# Altium footprint library CHXXX.pcblib: 159 footprints (part 4 of 10)
Each footprint in its own frame and in the unit in brackets; x right, y up, seen from the top. Pads: shape width x height; smd on the part's side, far side on the other; paste and mask are expansions set on the pad; w line width, h text height; cw(c..) or ccw(c..) is an arc to the next point about the centre after c.
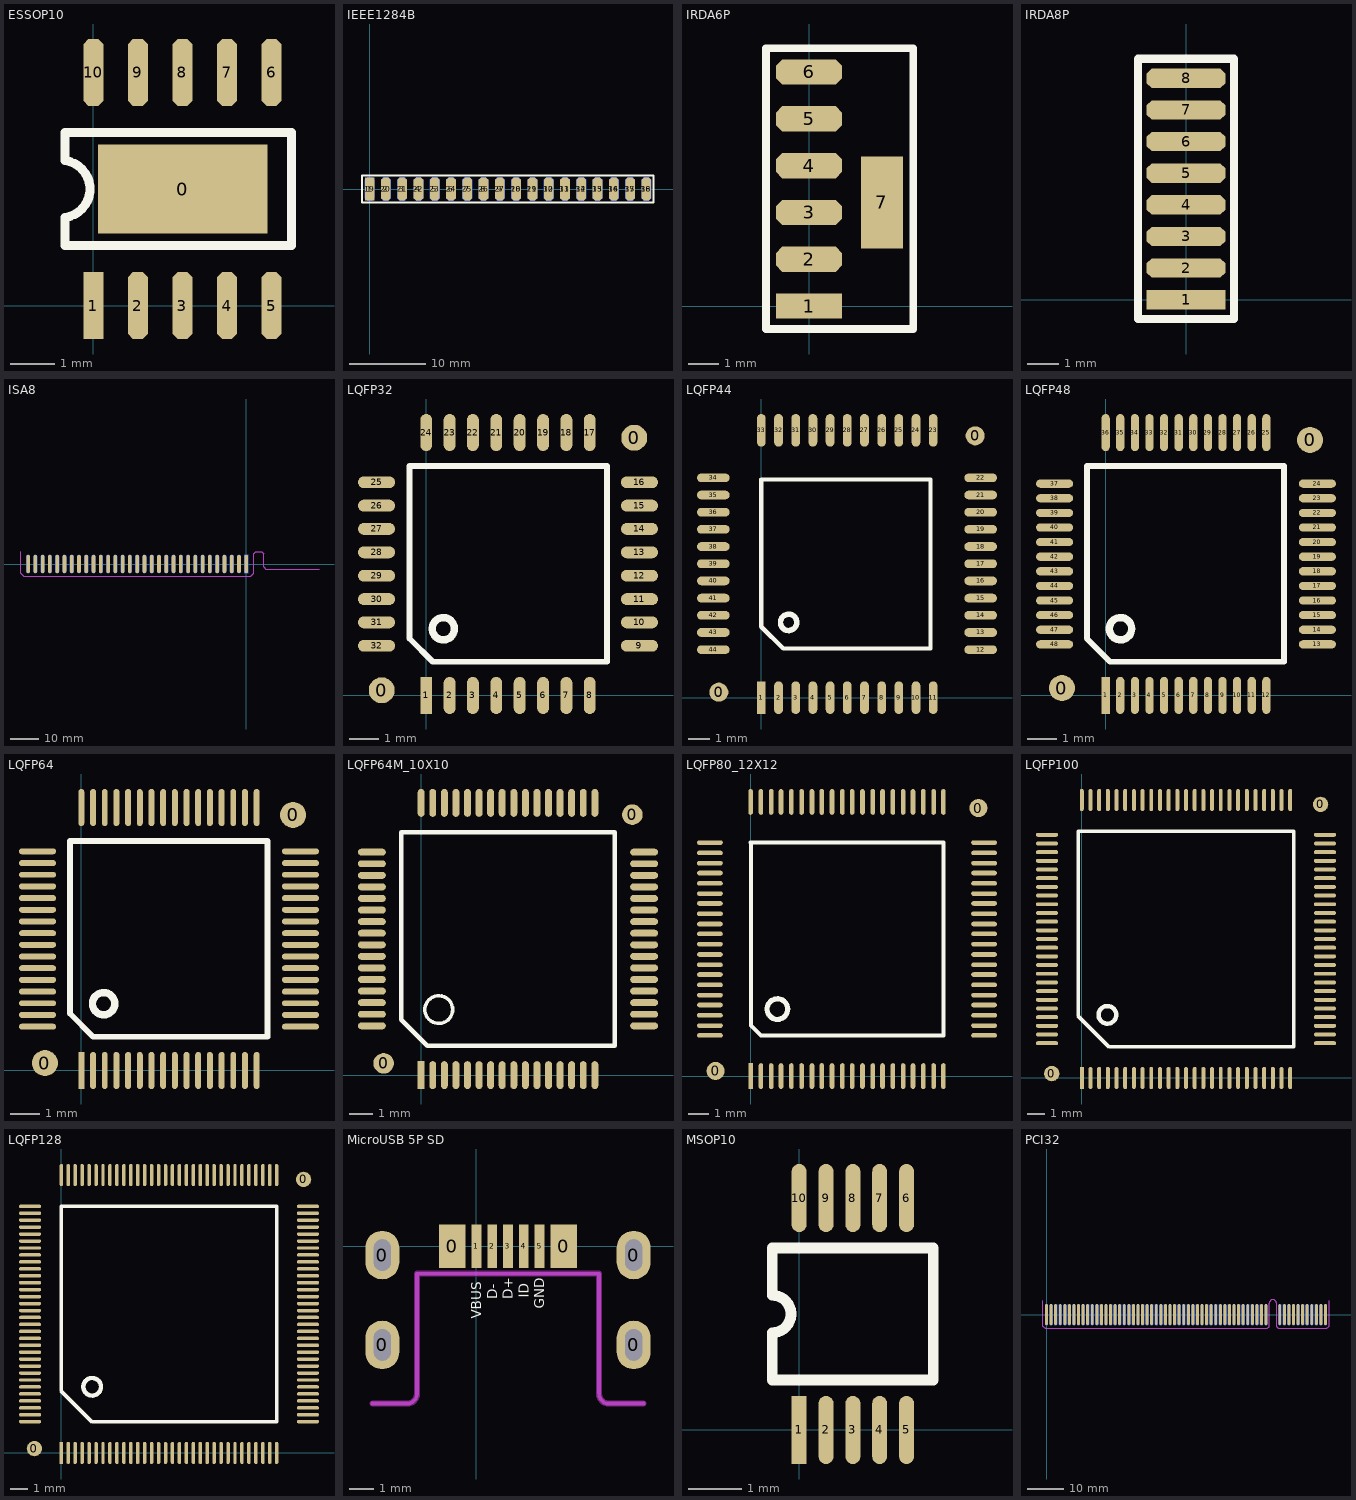
[diagram p3: the footprints below, top view; thin cyan lines are the x and y axes]

## ESSOP10 [mm]
pads (11):
  rect 3.8x2 smd: 0(2.007,2.616)
  rect 0.45x1.5 smd: 1(0,0)
  oct 0.45x1.5 smd: 2(1,0) 3(2,0) 4(3,0) 5(4,0) 6(4,5.232) 7(3,5.232) 8(2,5.232) 9(1,5.232) 10(0,5.232)
TopOverlay:
  lines w0.203: -0.635,1.346 4.445,1.346 4.445,3.886 -0.635,3.886 -0.635,3.251 cw(c-0.714,2.616) -0.635,1.981 -0.635,1.346

## IEEE1284B [mil]
pads (36):
  rect 50x120 smd: 1(0,0)
  oct 50x120 smd: 2(84.25,0) 3(168.5,0) 4(252.76,0) 5(337.01,0) 6(421.26,0) 7(505.51,0) 8(589.76,0) 9(674.02,0) 10(758.27,0) 11(842.52,0) 12(926.77,0) 13(1011.02,0) 14(1095.28,0) 15(1179.53,0) 16(1263.78,0) 17(1348.03,0) 18(1432.28,0)
  oct 50x120 smd far side: 19(0,0) 20(84.25,0) 21(168.5,0) 22(252.76,0) 23(337.01,0) 24(421.26,0) 25(505.51,0) 26(589.76,0) 27(674.02,0) 28(758.27,0) 29(842.52,0) 30(926.77,0) 31(1011.02,0) 32(1095.28,0) 33(1179.53,0) 34(1263.78,0) 35(1348.03,0) 36(1432.28,0)
TopOverlay:
  lines w10: -40,-70 -40,70 1470,70 1470,-70 -40,-70

## IRDA6P [mil]
pads (7):
  rect 86x33 smd: 1(0,0)
  oct 86x33 smd: 2(0,60.91) 3(0,121.93) 4(0,182.95) 5(0,243.98) 6(0,305)
  rect 55x120 smd: 7(95,135)
TopOverlay:
  lines w10: -56,-30 -56,336 136,336 136,-30 -56,-30

## IRDA8P [mil]
pads (8):
  rect 98x24 smd: 1(0,0)
  oct 98x24 smd: 2(0,39.37) 3(0,78.74) 4(0,118.11) 5(0,157.48) 6(0,196.85) 7(0,236.22) 8(0,275.59)
TopOverlay:
  lines w10: -60,-24 -60,300 60,300 60,-24 -60,-24

## ISA8 [mm]
pads (62):
  rect 1.27x6.35 smd far side: 1(0,0)
  oval 1.27x6.35 smd far side: 2(-2.54,0) 3(-5.08,0) 4(-7.62,0) 5(-10.16,0) 6(-12.7,0) 7(-15.24,0) 8(-17.78,0) 9(-20.32,0) 10(-22.86,0) 11(-25.4,0) 12(-27.94,0) 13(-30.48,0) 14(-33.02,0) 15(-35.56,0) 16(-38.1,0) 17(-40.64,0) 18(-43.18,0) 19(-45.72,0) 20(-48.26,0) 21(-50.8,0) 22(-53.34,0) 23(-55.88,0) 24(-58.42,0) 25(-60.96,0) 26(-63.5,0) 27(-66.04,0) 28(-68.58,0) 29(-71.12,0) 30(-73.66,0) 31(-76.2,0)
  oval 1.27x6.35 smd: 32(-76.2,0) 33(-73.66,0) 34(-71.12,0) 35(-68.58,0) 36(-66.04,0) 37(-63.5,0) 38(-60.96,0) 39(-58.42,0) 40(-55.88,0) 41(-53.34,0) 42(-50.8,0) 43(-48.26,0) 44(-45.72,0) 45(-43.18,0) 46(-40.64,0) 47(-38.1,0) 48(-35.56,0) 49(-33.02,0) 50(-30.48,0) 51(-27.94,0) 52(-25.4,0) 53(-22.86,0) 54(-20.32,0) 55(-17.78,0) 56(-15.24,0) 57(-12.7,0) 58(-10.16,0) 59(-7.62,0) 60(-5.08,0) 61(-2.54,0) 62(0,0)
TopSolder:
  rectangle: -78.74,-4.318 2.54,3.302
BottomSolder:
  rectangle: -78.74,-4.318 2.54,3.302
KeepOutLayer:
  lines w0.254: -78.74,4.318 -78.74,-3.302 -77.724,-4.318 1.524,-4.318 2.54,-3.302 2.54,3.556 3.302,4.318 5.334,4.318 6.096,3.556 6.096,-1.016 6.858,-1.778 25.4,-1.778
Mechanical1:
  lines w0.254: -78.74,4.318 -78.74,-3.302 -77.724,-4.318 1.524,-4.318 2.54,-3.302 2.54,3.556 3.302,4.318 5.334,4.318 6.096,3.556 6.096,-1.016 6.858,-1.778 25.4,-1.778

## LQFP32 [mil]
pads (34):
  round 35 smd: 0(-60,7) 0(280.47,347.47)
  rect 16x50 smd: 1(0,0)
  oval 16x50 smd: 2(31.5,0) 3(62.99,0) 4(94.49,0) 5(125.98,0) 6(157.48,0) 7(188.98,0) 8(220.47,0) 17(220.47,354.5) 18(188.98,354.5) 19(157.48,354.5) 20(125.98,354.5) 21(94.49,354.5) 22(62.99,354.5) 23(31.5,354.5) 24(0,354.5)
  oval 50x16 smd: 9(287.5,67) 10(287.5,98.5) 11(287.5,129.99) 12(287.5,161.49) 13(287.5,192.98) 14(287.5,224.48) 15(287.5,255.98) 16(287.5,287.47) 25(-67,287.47) 26(-67,255.98) 27(-67,224.48) 28(-67,192.98) 29(-67,161.49) 30(-67,129.99) 31(-67,98.5) 32(-67,67)
TopOverlay:
  circle w10: c23,90 r15
  lines w7.87: -22.42,76.66 8.83,45.42
  lines w8: -22.42,76.66 -22.42,309.42 243.58,309.42 243.58,45.42 8.83,45.42

## LQFP44 [mil]
pads (46):
  round 35 smd: 0(-78,10) 0(392,480)
  rect 16x60 smd: 1(0,0)
  oval 16x60 smd: 2(31.5,0) 3(63,0) 4(94.49,0) 5(126,0) 6(157.48,0) 7(188.98,0) 8(220.47,0) 9(251.97,0) 10(283.46,0) 11(314.96,0) 23(314.96,490) 24(283.46,490) 25(251.97,490) 26(220.47,490) 27(188.98,490) 28(157.48,490) 29(126,490) 30(94.49,490) 31(63,490) 32(31.5,490) 33(0,490)
  oval 60x16 smd: 12(402,88) 13(402,119.49) 14(402,151) 15(402,182.48) 16(402,214) 17(402,245.47) 18(402,276.97) 19(402,308.46) 20(402,339.96) 21(402,371.46) 22(402,402.95) 34(-88,402.95) 35(-88,371.46) 36(-88,339.96) 37(-88,308.46) 38(-88,276.97) 39(-88,245.47) 40(-88,214) 41(-88,182.48) 42(-88,151) 43(-88,119.49) 44(-88,88)
TopOverlay:
  circle w10: c50,138 r15
  lines w8: 0,130 40,90 310,90 310,400 0,400 0,130

## LQFP48 [mm]
pads (50):
  round 0.889 smd: 0(-1.496,0.254) 0(6.996,8.746)
  rect 0.28x1.27 smd mask+0.051: 1(0,0)
  oval 0.28x1.27 smd mask+0.051: 2(0.5,0) 3(1,0) 4(1.5,0) 5(2,0) 6(2.5,0) 7(3,0) 8(3.5,0) 9(4,0) 10(4.5,0) 11(5,0) 12(5.5,0) 25(5.5,9) 26(5,9) 27(4.5,9) 28(4,9) 29(3.5,9) 30(3,9) 31(2.5,9) 32(2,9) 33(1.5,9) 34(1,9) 35(0.5,9) 36(0,9)
  oval 1.27x0.28 smd mask+0.051: 13(7.25,1.75) 14(7.25,2.25) 15(7.25,2.75) 16(7.25,3.25) 17(7.25,3.75) 18(7.25,4.25) 19(7.25,4.75) 20(7.25,5.25) 21(7.25,5.75) 22(7.25,6.25) 23(7.25,6.75) 24(7.25,7.25) 37(-1.75,7.25) 38(-1.75,6.75) 39(-1.75,6.25) 40(-1.75,5.75) 41(-1.75,5.25) 42(-1.75,4.75) 43(-1.75,4.25) 44(-1.75,3.75) 45(-1.75,3.25) 46(-1.75,2.75) 47(-1.75,2.25) 48(-1.75,1.75)
TopOverlay:
  circle w0.254: c0.508,2.286 r0.381
  lines w0.2: -0.646,1.947 0.148,1.154
  lines w0.203: -0.646,1.947 -0.646,7.859 6.111,7.859 6.111,1.154 0.148,1.154

## LQFP64 [mm]
pads (66):
  round 0.889 smd: 0(-1.246,0.254) 0(7.246,8.746)
  rect 0.203x1.27 smd mask+0.051: 1(0,0)
  oval 0.203x1.27 smd mask+0.051: 2(0.4,0) 3(0.8,0) 4(1.2,0) 5(1.6,0) 6(2,0) 7(2.4,0) 8(2.8,0) 9(3.2,0) 10(3.6,0) 11(4,0) 12(4.4,0) 13(4.8,0) 14(5.2,0) 15(5.6,0) 16(6,0) 33(6,9) 34(5.6,9) 35(5.2,9) 36(4.8,9) 37(4.4,9) 38(4,9) 39(3.6,9) 40(3.2,9) 41(2.8,9) 42(2.4,9) 43(2,9) 44(1.6,9) 45(1.2,9) 46(0.8,9) 47(0.4,9) 48(0,9)
  oval 1.27x0.203 smd mask+0.051: 17(7.5,1.5) 18(7.5,1.9) 19(7.5,2.3) 20(7.5,2.7) 21(7.5,3.1) 22(7.5,3.5) 23(7.5,3.9) 24(7.5,4.3) 25(7.5,4.7) 26(7.5,5.1) 27(7.5,5.5) 28(7.5,5.9) 29(7.5,6.3) 30(7.5,6.7) 31(7.5,7.1) 32(7.5,7.5) 49(-1.5,7.5) 50(-1.5,7.1) 51(-1.5,6.7) 52(-1.5,6.3) 53(-1.5,5.9) 54(-1.5,5.5) 55(-1.5,5.1) 56(-1.5,4.7) 57(-1.5,4.3) 58(-1.5,3.9) 59(-1.5,3.5) 60(-1.5,3.1) 61(-1.5,2.7) 62(-1.5,2.3) 63(-1.5,1.9) 64(-1.5,1.5)
TopOverlay:
  circle w0.254: c0.762,2.286 r0.381
  lines w0.2: -0.392,1.947 0.402,1.154
  lines w0.203: -0.392,1.947 -0.392,7.859 6.365,7.859 6.365,1.154 0.402,1.154

## LQFP64M_10X10 [mm]
pads (66):
  round 0.889 smd: 0(-1.619,0.508) 0(9.119,11.246)
  rect 0.3x1.2 smd mask+0.051: 1(0,0)
  oval 0.3x1.2 smd mask+0.051: 2(0.5,0) 3(1,0) 4(1.5,0) 5(2,0) 6(2.5,0) 7(3,0) 8(3.5,0) 9(4,0) 10(4.5,0) 11(5,0) 12(5.5,0) 13(6,0) 14(6.5,0) 15(7,0) 16(7.5,0) 33(7.5,11.754) 34(7,11.754) 35(6.5,11.754) 36(6,11.754) 37(5.5,11.754) 38(5,11.754) 39(4.5,11.754) 40(4,11.754) 41(3.5,11.754) 42(3,11.754) 43(2.5,11.754) 44(2,11.754) 45(1.5,11.754) 46(1,11.754) 47(0.5,11.754) 48(0,11.754)
  oval 1.2x0.3 smd mask+0.051: 17(9.627,2.127) 18(9.627,2.627) 19(9.627,3.127) 20(9.627,3.627) 21(9.627,4.127) 22(9.627,4.627) 23(9.627,5.127) 24(9.627,5.627) 25(9.627,6.127) 26(9.627,6.627) 27(9.627,7.127) 28(9.627,7.627) 29(9.627,8.127) 30(9.627,8.627) 31(9.627,9.127) 32(9.627,9.627) 49(-2.127,9.627) 50(-2.127,9.127) 51(-2.127,8.627) 52(-2.127,8.127) 53(-2.127,7.627) 54(-2.127,7.127) 55(-2.127,6.627) 56(-2.127,6.127) 57(-2.127,5.627) 58(-2.127,5.127) 59(-2.127,4.627) 60(-2.127,4.127) 61(-2.127,3.627) 62(-2.127,3.127) 63(-2.127,2.627) 64(-2.127,2.127)
TopOverlay:
  circle w0.152: c0.762,2.829 r0.6
  lines w0.2: -0.865,2.397 -0.865,10.492 8.365,10.492 8.365,1.262 0.27,1.262 -0.865,2.397

## LQFP80_12X12 [mil]
pads (82):
  round 35 smd: 0(-68,10) 0(442,520)
  rect 9x50 smd mask+2: 1(0,0)
  oval 9x50 smd mask+2: 2(20,0) 3(40,0) 4(59,0) 5(79,0) 6(99,0) 7(119,0) 8(138,0) 9(158,0) 10(178,0) 11(197,0) 12(217,0) 13(237,0) 14(256,0) 15(276,0) 16(296,0) 17(315,0) 18(335,0) 19(355,0) 20(374,0) 41(374,532) 42(355,532) 43(335,532) 44(315,532) 45(296,532) 46(276,532) 47(256,532) 48(237,532) 49(217,532) 50(197,532) 51(178,532) 52(158,532) 53(138,532) 54(119,532) 55(99,532) 56(79,532) 57(59,532) 58(40,532) 59(20,532) 60(0,532)
  oval 50x9 smd mask+2: 21(453,79) 22(453,98) 23(453,118) 24(453,138) 25(453,157) 26(453,177) 27(453,197) 28(453,216) 29(453,236) 30(453,256) 31(453,276) 32(453,295) 33(453,315) 34(453,335) 35(453,354) 36(453,374) 37(453,394) 38(453,413) 39(453,433) 40(453,453) 61(-79,453) 62(-79,433) 63(-79,413) 64(-79,394) 65(-79,374) 66(-79,354) 67(-79,335) 68(-79,315) 69(-79,295) 70(-79,276) 71(-79,256) 72(-79,236) 73(-79,216) 74(-79,197) 75(-79,177) 76(-79,157) 77(-79,138) 78(-79,118) 79(-79,98) 80(-79,79)
TopOverlay:
  circle w10: c52,130 r20
  lines w8: 0,453 374,453 374,79 20,79 1,98 1,453

## LQFP100 [mm]
pads (102):
  round 0.889 smd: 0(-1.727,0.254) 0(13.746,15.748)
  rect 0.229x1.27 smd mask+0.051: 1(0,0)
  oval 0.229x1.27 smd mask+0.051: 2(0.5,0) 3(1,0) 4(1.5,0) 5(2,0) 6(2.5,0) 7(3,0) 8(3.5,0) 9(4,0) 10(4.5,0) 11(5,0) 12(5.5,0) 13(6,0) 14(6.5,0) 15(7,0) 16(7.5,0) 17(8,0) 18(8.5,0) 19(9,0) 20(9.5,0) 21(10,0) 22(10.5,0) 23(11,0) 24(11.5,0) 25(12,0) 51(12,16) 52(11.5,16) 53(11,16) 54(10.5,16) 55(10,16) 56(9.5,16) 57(9,16) 58(8.5,16) 59(8,16) 60(7.5,16) 61(7,16) 62(6.5,16) 63(6,16) 64(5.5,16) 65(5,16) 66(4.5,16) 67(4,16) 68(3.5,16) 69(3,16) 70(2.5,16) 71(2,16) 72(1.5,16) 73(1,16) 74(0.5,16) 75(0,16)
  oval 1.27x0.229 smd mask+0.051: 26(14,2) 27(14,2.5) 28(14,3) 29(14,3.5) 30(14,4) 31(14,4.5) 32(14,5) 33(14,5.5) 34(14,6) 35(14,6.5) 36(14,7) 37(14,7.5) 38(14,8) 39(14,8.5) 40(14,9) 41(14,9.5) 42(14,10) 43(14,10.5) 44(14,11) 45(14,11.5) 46(14,12) 47(14,12.5) 48(14,13) 49(14,13.5) 50(14,14) 76(-2,14) 77(-2,13.5) 78(-2,13) 79(-2,12.5) 80(-2,12) 81(-2,11.5) 82(-2,11) 83(-2,10.5) 84(-2,10) 85(-2,9.5) 86(-2,9) 87(-2,8.5) 88(-2,8) 89(-2,7.5) 90(-2,7) 91(-2,6.5) 92(-2,6) 93(-2,5.5) 94(-2,5) 95(-2,4.5) 96(-2,4) 97(-2,3.5) 98(-2,3) 99(-2,2.5) 100(-2,2)
TopOverlay:
  circle w0.254: c1.473,3.632 r0.508
  lines w0.2: -0.215,3.57 -0.215,14.215 12.215,14.215 12.215,1.785 1.57,1.785 -0.215,3.57

## LQFP128 [mm]
pads (130):
  round 0.889 smd: 0(-1.546,0.254) 0(13.946,15.746)
  rect 0.2x1.27 smd mask+0.051: 1(0,0)
  oval 0.2x1.27 smd mask+0.051: 2(0.4,0) 3(0.8,0) 4(1.2,0) 5(1.6,0) 6(2,0) 7(2.4,0) 8(2.8,0) 9(3.2,0) 10(3.6,0) 11(4,0) 12(4.4,0) 13(4.8,0) 14(5.2,0) 15(5.6,0) 16(6,0) 17(6.4,0) 18(6.8,0) 19(7.2,0) 20(7.6,0) 21(8,0) 22(8.4,0) 23(8.8,0) 24(9.2,0) 25(9.6,0) 26(10,0) 27(10.4,0) 28(10.8,0) 29(11.2,0) 30(11.6,0) 31(12,0) 32(12.4,0) 65(12.4,16) 66(12,16) 67(11.6,16) 68(11.2,16) 69(10.8,16) 70(10.4,16) 71(10,16) 72(9.6,16) 73(9.2,16) 74(8.8,16) 75(8.4,16) 76(8,16) 77(7.6,16) 78(7.2,16) 79(6.8,16) 80(6.4,16) 81(6,16) 82(5.6,16) 83(5.2,16) 84(4.8,16) 85(4.4,16) 86(4,16) 87(3.6,16) 88(3.2,16) 89(2.8,16) 90(2.4,16) 91(2,16) 92(1.6,16) 93(1.2,16) 94(0.8,16) 95(0.4,16) 96(0,16)
  oval 1.27x0.2 smd mask+0.051: 33(14.2,1.8) 34(14.2,2.2) 35(14.2,2.6) 36(14.2,3) 37(14.2,3.4) 38(14.2,3.8) 39(14.2,4.2) 40(14.2,4.6) 41(14.2,5) 42(14.2,5.4) 43(14.2,5.8) 44(14.2,6.2) 45(14.2,6.6) 46(14.2,7) 47(14.2,7.4) 48(14.2,7.8) 49(14.2,8.2) 50(14.2,8.6) 51(14.2,9) 52(14.2,9.4) 53(14.2,9.8) 54(14.2,10.2) 55(14.2,10.6) 56(14.2,11) 57(14.2,11.4) 58(14.2,11.8) 59(14.2,12.2) 60(14.2,12.6) 61(14.2,13) 62(14.2,13.4) 63(14.2,13.8) 64(14.2,14.2) 97(-1.8,14.2) 98(-1.8,13.8) 99(-1.8,13.4) 100(-1.8,13) 101(-1.8,12.6) 102(-1.8,12.2) 103(-1.8,11.8) 104(-1.8,11.4) 105(-1.8,11) 106(-1.8,10.6) 107(-1.8,10.2) 108(-1.8,9.8) 109(-1.8,9.4) 110(-1.8,9) 111(-1.8,8.6) 112(-1.8,8.2) 113(-1.8,7.8) 114(-1.8,7.4) 115(-1.8,7) 116(-1.8,6.6) 117(-1.8,6.2) 118(-1.8,5.8) 119(-1.8,5.4) 120(-1.8,5) 121(-1.8,4.6) 122(-1.8,4.2) 123(-1.8,3.8) 124(-1.8,3.4) 125(-1.8,3) 126(-1.8,2.6) 127(-1.8,2.2) 128(-1.8,1.8)
TopOverlay:
  circle w0.254: c1.778,3.81 r0.508
  lines w0.2: -0.015,3.57 -0.015,14.215 12.415,14.215 12.415,1.785 1.77,1.785 -0.015,3.57

## MicroUSB 5P SD [mm]
pads (11):
  oval 1.4x2 hole 0.7 slot 1.3 at 90 deg: 0(-3.875,-4.062) 0(-3.875,-0.362) 0(6.475,-4.062) 0(6.475,-0.362)
  rect 1.1x1.8 smd mask+0.051: 0(-1,0) 0(3.6,0)
  rect 0.4x1.8 smd mask+0.051: 1(0,0) 2(0.65,0) 3(1.3,0) 4(1.95,0) 5(2.6,0)
TopOverlay:
  text "GND" at 2.8,-2.577 h0.4
  text "ID" at 2.15,-2.11 h0.4
  text "D+" at 1.5,-2.177 h0.4
  text "D-" at 0.85,-2.177 h0.4
  text "VBUS" at 0.2,-2.977 h0.4
KeepOutLayer:
  lines w0.254: -4.277,-6.476 -2.85,-6.476 ccw(c-2.85,-6.076) -2.45,-6.076 -2.45,-1.126 5.05,-1.126 5.05,-6.076 ccw(c5.45,-6.076) 5.45,-6.476 6.877,-6.476
Mechanical1:
  lines w0.152: -4.277,-6.476 -2.85,-6.476 ccw(c-2.85,-6.076) -2.45,-6.076 -2.45,-1.126 5.05,-1.126 ; 6.877,-6.476 5.45,-6.476 cw(c5.45,-6.076) 5.05,-6.076 5.05,-1.126 ; 5.05,-1.126 5.05,-1.126
3D body "476420001.stp": height 1.78, standoff -1.2, extent -3.8,-6.597 6.4,0.633

## MSOP10 [mil]
pads (10):
  rect 11x50 smd mask+2: 1(0,0)
  oval 11x50 smd mask+2: 2(19.68,0) 3(39.37,0) 4(59.06,0) 5(78.74,0) 6(78.74,170) 7(59.06,170) 8(39.37,170) 9(19.68,170) 10(0,170)
TopOverlay:
  lines w7.87: -19.8,36.65 98.32,36.65 98.32,133.35 -19.8,133.35 -19.8,98.78 cw(c-19.8,85) -19.8,71.22 -19.8,36.65

## PCI32 [mil]
pads (120):
  oct 32x230 smd: 1(0,0) 2(50,0) 3(100,0) 4(150,0) 5(200,0) 6(250,0) 7(300,0) 8(350,0) 9(400,0) 10(450,0) 11(500,0) 12(550,0) 13(600,0) 14(650,0) 15(700,0) 16(750,0) 17(800,0) 18(850,0) 19(900,0) 20(950,0) 21(1000,0) 22(1050,0) 23(1100,0) 24(1150,0) 25(1200,0) 26(1250,0) 27(1300,0) 28(1350,0) 29(1400,0) 30(1450,0) 31(1500,0) 32(1550,0) 33(1600,0) 34(1650,0) 35(1700,0) 36(1750,0) 37(1800,0) 38(1850,0) 39(1900,0) 40(1950,0) 41(2000,0) 42(2050,0) 43(2100,0) 44(2150,0) 45(2200,0) 46(2250,0) 47(2300,0) 48(2350,0) 49(2400,0) 52(2550,0) 53(2600,0) 54(2650,0) 55(2700,0) 56(2750,0) 57(2800,0) 58(2850,0) 59(2900,0) 60(2950,0) 61(3000,0) 62(3050,0)
  oct 32x230 smd far side: 63(3050,0) 64(3000,0) 65(2950,0) 66(2900,0) 67(2850,0) 68(2800,0) 69(2750,0) 70(2700,0) 71(2650,0) 72(2600,0) 73(2550,0) 76(2400,0) 77(2350,0) 78(2300,0) 79(2250,0) 80(2200,0) 81(2150,0) 82(2100,0) 83(2050,0) 84(2000,0) 85(1950,0) 86(1900,0) 87(1850,0) 88(1800,0) 89(1750,0) 90(1700,0) 91(1650,0) 92(1600,0) 93(1550,0) 94(1500,0) 95(1450,0) 96(1400,0) 97(1350,0) 98(1300,0) 99(1250,0) 100(1200,0) 101(1150,0) 102(1100,0) 103(1050,0) 104(1000,0) 105(950,0) 106(900,0) 107(850,0) 108(800,0) 109(750,0) 110(700,0) 111(650,0) 112(600,0) 113(550,0) 114(500,0) 115(450,0) 116(400,0) 117(350,0) 118(300,0) 119(250,0) 120(200,0) 121(150,0) 122(100,0) 123(50,0) 124(0,0)
TopSolder:
  rectangle: -40,-150 2435,120
  rectangle: 2515,-150 3090,120
BottomSolder:
  rectangle: 2515,-150 3090,120
  rectangle: -40,-150 2435,120
KeepOutLayer:
  lines w10: -40,150 -40,-125 -15,-150 2415,-150 2435,-130 2435,125 cw(c2475,125) 2515,125 2515,-130 2535,-150 3065,-150 3090,-125 3090,150
Mechanical1:
  lines w10: -40,150 -40,-125 -15,-150 2415,-150 2435,-130 2435,125 cw(c2475,125) 2515,125 2515,-130 2535,-150 3065,-150 3090,-125 3090,150